# Altium schematic symbol library SCH.SCHLIB: 6 symbols
Pins are listed as number, name and electrical type; pins without a type are passive.

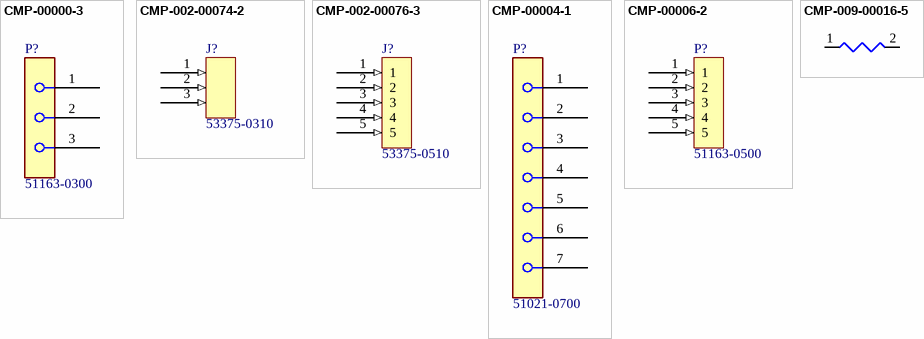
[diagram p0: symbols CMP-00000-3 to CMP-009-00016-5]

## CMP-00000-3
designator P?, comment 51163-0300
Cable Connector, 3 Contact(s), 1 Row(s), Female, 0.098 inch Pitch, Crimp Terminal, Locking, Natural Insulator, Plug; Manufacturer Series: 51163; Manufacturer: Molex; Insertion Force-Max: 7.1168N; Polarization Key: POLARIZED HOUSING; Number of Rows Loaded: 1; Option: General Purpose; IEC Conformance: No; Contact Style: SQ PIN-SKT; Reference Standard: UL; Mating Information: MULTIPLE MATING PARTS AVAILABLE; Connector Type: BOARD CONNECTOR; Contact Pattern: RECTANGULAR; Dielectric Withstanding Voltage (AC): 1.4kV; Number of Contacts: 3; Insulation Resistance: 1GR; Body Breadth: 0.295inch; Body Length: 0.346inch; Contact Resistance: 20mR; Reliability: COMMERCIAL; Body Depth: 0.378inch; Insulation Material: Polyester; Contact Finish - Mating: NOT SPECIFIED; RoHS Compliant: Yes; Flammability Rating: UL94 V-0; Filter Feature: No; Mixed Contacts: No; Mount: Cable; Reach SVHC Compliant: Yes; DIN Conformance: No; Contact Gender: Female; Max Operating Temperature: 105°C; Mounting Option 1: LOCKING; Insulation Color: Natural; Min Operating Temperature: -40°C; Body/Shell Style: PLUG; MIL Conformance: No; Mating Contact Pitch: 0.098inch; Termination: Crimp; Manufacturer Part Number: 51163-0300
footprint FP-51163-0300-MFG
pins: 1, 2, 3

## CMP-002-00074-2
designator J?, comment 53375-0310
Board Connector, 3 Contact(s), 1 Row(s), Male, Straight, 0.098 inch Pitch, Solder Terminal, White Insulator, Receptacle; Manufacturer: Molex; Manufacturer Part Number: 53375-0310
footprint SOJ127P870X356-20M (SOJ, 20-Leads, Body 13.00x8.66mm, Pitch 1.27mm, IPC Low Density)
pins: 1 (in), 2 (in), 3 (in)

## CMP-002-00076-3
designator J?, comment 53375-0510
Board Connector, 5 Contact(s), 1 Row(s), Male, Straight, 0.098 inch Pitch, Solder Terminal, White Insulator, Receptacle; Manufacturer: Molex; Manufacturer Part Number: 53375-0510
footprint 53375-0510-Footprint-1
pins: 1 (in), 2 (in), 3 (in), 4 (in), 5 (in)

## CMP-00004-1
designator P?, comment 51021-0700
Harness Connector, 7 Contact(s), 1 Row(s), Female, 0.049 inch Pitch, Crimp Terminal, Locking, Receptacle; Manufacturer: Molex; Reliability: COMMERCIAL; MIL Conformance: No; Connector Type: BOARD CONNECTOR; Body Depth: 0.156inch; Body Length: 0.413inch; Insulation Resistance: 100MR; Contact Resistance: 20mR; Option: General Purpose; Number of Contacts: 7; Mating Information: MULTIPLE MATING PARTS AVAILABLE; Contact Pattern: RECTANGULAR; Reference Standard: UL; Body Breadth: 0.126inch; Number of Rows Loaded: 1; Body/Shell Style: RECEPTACLE; Termination: Crimp; Reach SVHC Compliant: Yes; Mounting Style: STRAIGHT; Terminal Pitch: 1.25mm; Max Operating Temperature: 85°C; Min Operating Temperature: -40°C; IEC Conformance: No; Mounting Technology: Board; Mating Contact Pitch: 0.049inch; Flammability Rating: UL94 V-0; DIN Conformance: No; Insulation Material: Polyester; Contact Finish - Mating: NOT SPECIFIED; Mounting Option 1: LOCKING; Filter Feature: No; RoHS Compliant: Yes; Contact Gender: Female; Mixed Contacts: No; Manufacturer Part Number: 51021-0700
footprint FP-51021-0700-MFG
pins: 1, 2, 3, 4, 5, 6, 7

## CMP-00006-2
designator P?, comment 51163-0500
Harness Connector, 5 Contact(s), 1 Row(s), Female, 0.098 inch Pitch, Crimp Terminal, Locking, Natural Insulator, Plug; Manufacturer Series: 51163; Manufacturer: Molex; Contact Style: SQ PIN-SKT; Filter Feature: No; Dielectric Withstanding Voltage (AC): 1.4kV; Number of Rows Loaded: 1; Number of Contacts: 5; Body Breadth: 0.295inch; Insulation Resistance: 1GR; Connector Type: BOARD CONNECTOR; Reliability: COMMERCIAL; Reference Standard: UL; Contact Pattern: RECTANGULAR; Body Depth: 0.378inch; Body Length: 0.543inch; Polarization Key: POLARIZED HOUSING; Insertion Force-Max: 7.1168N; Mating Information: MULTIPLE MATING PARTS AVAILABLE; Option: General Purpose; Contact Resistance: 20mR; Body/Shell Style: PLUG; Mating Contact Pitch: 0.098inch; Mixed Contacts: No; Max Operating Temperature: 105°C; Reach SVHC Compliant: Yes; MIL Conformance: No; Insulation Color: Natural; Contact Gender: Female; Mounting Technology: Cable; Mounting Option 1: LOCKING; Flammability Rating: UL94 V-0; RoHS Compliant: Yes; IEC Conformance: No; Contact Finish - Mating: NOT SPECIFIED; DIN Conformance: No; Insulation Material: Polyester; Min Operating Temperature: -40°C; Termination: Crimp; Manufacturer Part Number: 51163-0500
footprint 51163-0500-Footprint-1
pins: 1 (in), 2 (in), 3 (in), 4 (in), 5 (in)

## CMP-009-00016-5
designator R?, comment Resistor 10k +/-1% 1206 250 mW  (value not drawn)
Chip Resistor, 10 KOhm, +/- 1%, 0.25 W, -55 to 155 degC, 1206 (3216 Metric); Manufacturer: Panasonic; Manufacturer Part Number: ERJ-8ENF1002V; Manufacturer: Vishay; Manufacturer Part Number: CRCW1206-10K0FKEA; Manufacturer: Yageo; Manufacturer Part Number: RC1206FR-0710KL; Power: 250mW; Voltage Rating: 200V; Pins: 2; Max Operating Temperature: 155°C; Tolerance: 1%; Value: 10k; RoHS Compliant: True; Case/Package: 1206; Min Operating Temperature: -55°C; Mounting Technology: SM
footprint RESC3216X60X45ML15T20 (Chip Resistor, 2-Leads, Body 3.3x1.75mm, IPC Low Density)
footprint RESC3216X60X45NL15T20 (Chip Resistor, 2-Leads, Body 3.3x1.75mm, IPC Medium Density)
footprint RESC3216X60X45LL15T20 (Chip Resistor, 2-Leads, Body 3.3x1.75mm, IPC High Density)
pins: 1, 2
1 alternate drawing of the same symbol